# Altium schematic symbol library En.SCHLIB: 251 symbols (part 1 of 5)
Pins are listed as number, name and electrical type; pins without a type are passive.

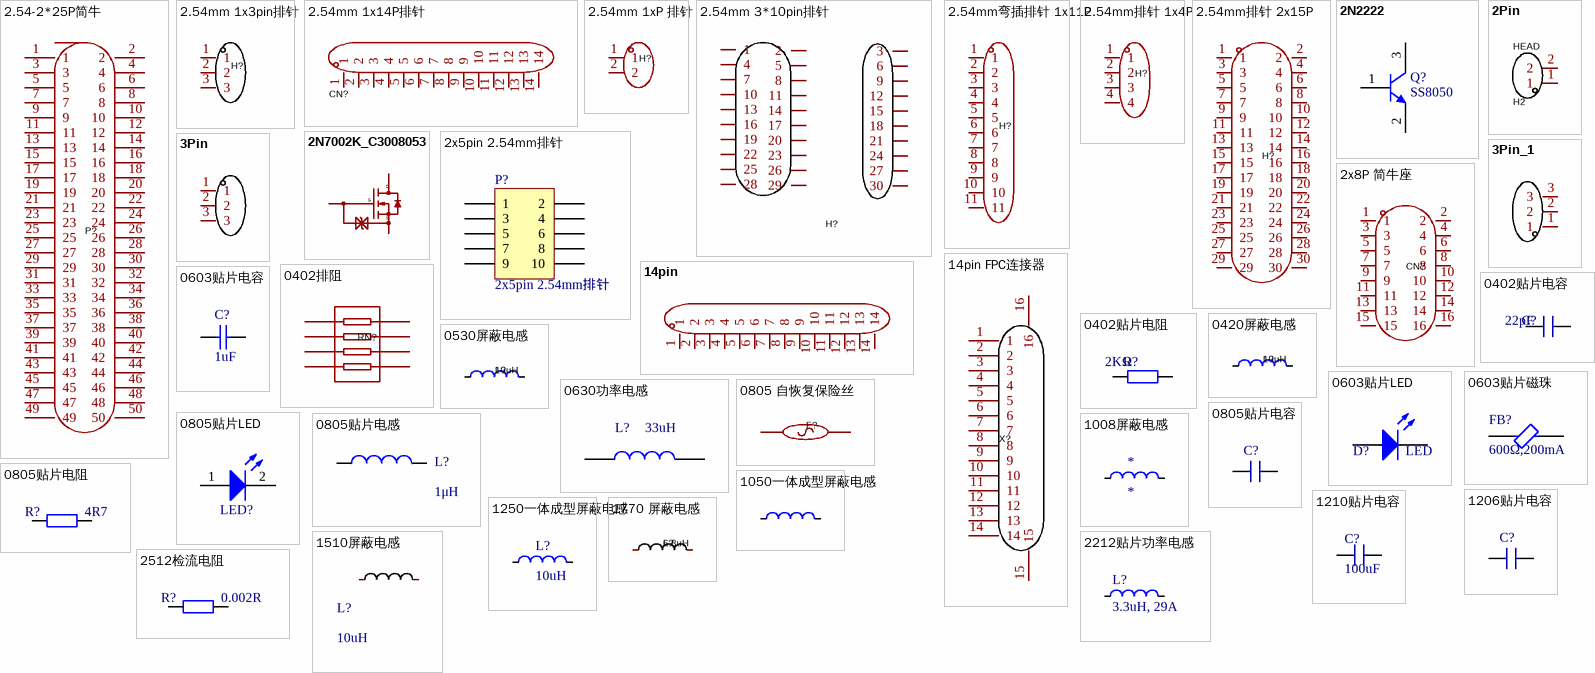
[diagram p0: symbols 2.54-2*25P简牛 to 2512检流电阻]

## 2.54-2*25P简牛
designator P?  (value not drawn)
Manufacturer: BOOMELE(博穆精密); Symbol: IDC Box2X25 2.54MM; Add into BOM: yes; Connector Type: 简牛座; Pitch: 2.54mm; Structure: 2x25P; Holder Type: 直插; Pin Number in each Row: 25; Device: 2.54-2*25P简牛; LCSC Part Name: 2.54mm 2x25P 排数:2 每排P数:25; Supplier Part: C30006; Manufacturer Part: 2.54-2*25P简牛; Supplier Footprint: 插件,P=2.54mm; JLCPCB Part Class: Extended Part; Datasheet: https://atta.szlcsc.com/upload/public/pdf/source/20151118/1457707579783.pdf; Supplier: LCSC; Convert to PCB: yes; Row Spacing: 2.54mm; Number of Rows: 2; Contact Material: -; Contact Plating: -
footprint IDC-TH_50P-P2.54_BOOMELE2X25P
pins: 1, 2, 3, 4, 5, 6, 7, 8, 9, 10, 11, 12, 13, 14, 15, 16, 17, 18, 19, 20, 21, 22, 23, 24, 25, 26, 27, 28, 29, 30, 31, 32, 33, 34, 35, 36, 37, 38, 39, 40, 41, 42, 43, 44, 45, 46, 47, 48, 49, 50

## 2.54mm 1x3pin排针
designator H?, comment PZ254V-11-03P  (value not drawn)
2.54mm 1x3pin排针; Manufacturer: XFCN(兴飞); Symbol: PZ254V-11-03P_C2937625; Add into BOM: yes; Pin Structure: 1x3P; Circluar Pins/Square Pins: 方针; Current Rating (Max): 3A; Voltage Rating (Max): 250V; Device: PZ254V-11-03P; LCSC Part Name: 间距:2.54mm 1x3P 直插 方针; Supplier Part: C2937625; Manufacturer Part: PZ254V-11-03P; Supplier Footprint: 插件,P=2.54mm; JLCPCB Part Class: Extended Part; Datasheet: https://atta.szlcsc.com/upload/public/pdf/source/20200309/C492402_8335C3D49C4E4C618838D59BB1D024C1.pdf; Supplier: LCSC; Convert to PCB: yes; Pitch: 2.54mm; Row Spacing: -; Mounting Type: 直插; Number of Rows: 单排; Number of Pins: 3P; Length of Mating Pin: 6mm; Insulation Height: 2.5mm; Length of End Connection Pin: 3mm; Operating Temperature Range: -40℃~+105℃; Color: 黑色
footprint HDR-TH_3P-P2.54-V-M
pins: 1, 2, 3

## 2.54mm 1x14P排针
designator CN?  (value not drawn)
Manufacturer: HC(虹成电子); Symbol: HC-PZ254-11.5L-1X14PZ; Add into BOM: yes; Pin Structure: 1x14P; Circluar Pins/Square Pins: 方针; Current Rating (Max): 3A; Soldering Temperature(Max): 260℃; Device: HC-PZ254-11.5L-1x14PZ; LCSC Part Name: 间距2.54mm 1x14Pin 直插 H2.5 L11.5; Supplier Part: C41375937; Manufacturer Part: HC-PZ254-11.5L-1x14PZ; Supplier Footprint: 插件,P=2.54mm; JLCPCB Part Class: Extended Part; Datasheet: https://atta.szlcsc.com/upload/public/pdf/source/20240830/63626790163DE4CBC1792CE5FB3AB1AC.pdf; Supplier: LCSC; Convert to PCB: yes; Pitch: 2.54mm; Row Spacing: -; Mounting Type: 直插; Number of Rows: 单排; Number of Pins: 14P; Length of Mating Pin: 6mm; Insulation Height: 2.5mm; Length of End Connection Pin: 3mm; Contact Material: 黄铜; Contact Plating: 金; Operating Temperature Range: -40℃~+105℃; Color: 黑色
footprint HDR-TH_14P-P2.54-V-F-1
pins: 1, 2, 3, 4, 5, 6, 7, 8, 9, 10, 11, 12, 13, 14

## 2.54mm 1xP 排针
designator H?, comment PZ254V-11-02P  (value not drawn)
Manufacturer: XFCN(兴飞); Add into BOM: yes; Pin Structure: 1x2P; Pitch: 2.54mm; Circluar Pins/Square Pins: 方针; Symbol: PZ254V-11-02P; Device: PZ254V-11-02P; LCSC Part Name: 间距:2.54mm 1x2P 直插 方针; Supplier Part: C492401; Manufacturer Part: PZ254V-11-02P; Supplier Footprint: 插件,P=2.54mm; JLCPCB Part Class: Extended Part; Datasheet: https://atta.szlcsc.com/upload/public/pdf/source/20200309/C492401_A812433581A9B211A7FFA413ADDFF0E5.pdf; Supplier: LCSC; Convert to PCB: yes; Row Spacing: -; Mounting Type: 直插; Number of Rows: 单排; Number of Pins: 2P; Current Rating (Max): -; Voltage Rating (Max): -; Length of Mating Pin: 6mm; Insulation Height: 2.5mm; Length of End Connection Pin: 3mm; Contact Material: 黄铜; Contact Plating: -; Operating Temperature Range: -40℃~+105℃; Color: 黑色
footprint HDR-TH_2P-P2.54-V-M
3D model HDR2.54-M-LI-1X2P
pins: 1, 2

## 2.54mm 3*10pin排针
designator H?  (value not drawn)
Manufacturer: Wcon(维峰电子); Symbol: 1125-1317G0S116C001; Add into BOM: yes; Pin Structure: 3x17P; Circluar Pins/Square Pins: 方针; Current Rating (Max): 3A; Device: 1125-1317G0S116C001; LCSC Part Name: 间距:2.54mm 3x17P 直插 方针; Supplier Part: C920773; Manufacturer Part: 1125-1317G0S116C001; Supplier Footprint: 插件,P=2.54mm; JLCPCB Part Class: Extended Part; Datasheet: https://atta.szlcsc.com/upload/public/pdf/source/20211207/30DA2ABB6762517FDD65C6A2AE5F4869.pdf; Supplier: LCSC; Convert to PCB: yes; Pitch: 2.54mm; Row Spacing: 2.54mm; Mounting Type: 直插; Number of Rows: 三排; Number of Pins: 51P; Voltage Rating (Max): -; Length of Mating Pin: 6.1mm; Insulation Height: 2.5mm; Length of End Connection Pin: 3mm; Operating Temperature Range: -40℃~+105℃; Color: 黑色
footprint HDR-TH_51P-P2.54-V-M-R3-C17
pins: 1, 2, 3, 4, 5, 6, 7, 8, 9, 10, 11, 12, 13, 14, 15, 16, 17, 18, 19, 20, 21, 22, 23, 24, 25, 26, 27, 28, 29, 30

## 2.54mm弯插排针 1x11P
designator H?  (value not drawn)
Manufacturer: HCTL(华灿天禄); Symbol: PZ254-1-11-W-8.5; Add into BOM: yes; Pitch: 2.54mm; Circluar Pins/Square Pins: 方针; Current Rating (Max): 3A; Soldering Temperature(Max): 260℃@10S; Device: PZ254-1-11-W-8.5; LCSC Part Name: 1x11P 间距:2.54mm 方针 弯插; Supplier Part: C2894953; Manufacturer Part: PZ254-1-11-W-8.5; Supplier Footprint: 弯插,P=2.54mm; JLCPCB Part Class: Extended Part; Datasheet: https://atta.szlcsc.com/upload/public/pdf/source/20230609/872AF364EDF8DB2CAF0930EAB94ECB6E.pdf; Supplier: LCSC; Convert to PCB: yes; Pin Structure: 1x11P; Row Spacing: -; Mounting Type: 弯插; Number of Rows: 单排; Number of Pins: 11P; Voltage Rating (Max): -; Length of Mating Pin: 6mm; Insulation Height: 2.5mm; Length of End Connection Pin: -; Contact Material: -; Operating Temperature Range: -40℃~+105℃; Color: 黑色
footprint HDR-TH_11P-P2.54-H-M-W10.4-N
pins: 1, 2, 3, 4, 5, 6, 7, 8, 9, 10, 11

## 2.54mm排针 1x4P
designator H?  (value not drawn)
Manufacturer: XFCN(兴飞); Symbol: PZ254V-11-04P_C2691448; Device: PZ254V-11-04P; Add into BOM: yes; Pitch: 2.54mm; Circluar Pins/Square Pins: 方针; Current Rating (Max): 3A; Voltage Rating (Max): 250V; LCSC Part Name: 间距:2.54mm 1x4P 直插 方针; Supplier Part: C2691448; Manufacturer Part: PZ254V-11-04P; Supplier Footprint: 插件,P=2.54mm; JLCPCB Part Class: Extended Part; Datasheet: https://atta.szlcsc.com/upload/public/pdf/source/20200309/C492403_F9F19131791D08044AD4F84F8E751A34.pdf; Supplier: LCSC; Convert to PCB: yes; Pin Structure: 1x4P; Row Spacing: -; Mounting Type: 直插; Number of Rows: 单排; Number of Pins: 4P; Length of Mating Pin: 6mm; Insulation Height: 2.5mm; Length of End Connection Pin: 3mm; Contact Material: -; Operating Temperature Range: -40℃~+105℃; Color: 黑色
footprint HDR-TH_4P-P2.54-V-M
pins: 1, 2, 3, 4

## 2.54mm排针 2x15P
designator H?, comment X6521WV-2x15H-C60D30  (value not drawn)
Manufacturer: XKB Connection(中国星坤); Symbol: X6521WV-2×15H-C30D60; Add into BOM: yes; Pin Structure: 2x15P; Pitch: 2.54mm; Circluar Pins/Square Pins: 方针; Current Rating (Max): 3A; Voltage Rating (Max): 250V; Soldering Temperature(Max): 260℃; Device: X6521WV-2x15H-C60D30; LCSC Part Name: 2x15P 间距:2.54mm 方针; Supplier Part: C725887; Manufacturer Part: X6521WV-2x15H-C60D30; Supplier Footprint: 插件,P=2.54mm; JLCPCB Part Class: Extended Part; Datasheet: https://atta.szlcsc.com/upload/public/pdf/source/20230814/F1C4971E164A170E66FC7330ABFF6881.pdf; Supplier: LCSC; Convert to PCB: yes; Row Spacing: 2.54mm; Mounting Type: -; Number of Rows: 双排; Number of Pins: 30P; Length of Mating Pin: -; Insulation Height: 2.5mm; Length of End Connection Pin: -; Contact Material: 黄铜; Contact Plating: 金; Operating Temperature Range: -40℃~+105℃; Color: 黑色
footprint HDR-TH_30P-P2.54-V-M-R2-C15-S2.54-BL
3D model HDR-TH_30P-P2.54-M-LI-2X15P
pins: 1, 2, 3, 4, 5, 6, 7, 8, 9, 10, 11, 12, 13, 14, 15, 16, 17, 18, 19, 20, 21, 22, 23, 24, 25, 26, 27, 28, 29, 30

## 2N2222
designator Q?, comment SS8050
三极管
footprint SOT-23-3_L2.9-W1.3-P1.90-LS2.4-BR
pins: 1 B, 2 E, 3 C

## 2N7002K_C3008053
designator Q?, comment 2N7002K  (value not drawn)
Manufacturer: MSKSEMI(美森科); Symbol: 2N7002K_C3008053; Add into BOM: yes; Type: 1个N沟道; Drain Source Voltage (Vdss): 60V; Continuous Drain Current (Id): 300mA; Drain Source On Resistance (RDS(on)@Vgs,Id): 2.2Ω@10V,0.3A; Power Dissipation (Pd): 350mW; Gate Threshold Voltage (Vgs(th)@Id): 1.6V@250uA; Total Gate Charge (Qg@Vgs): 5.6nC@10V; Input Capacitance (Ciss@Vds): 38pF@30V; Reverse Transfer Capacitance (Crss@Vds): 12pF@30V; Device: 2N7002K_C3008053; LCSC Part Name: N沟道,电流:0.3A,耐压:60V; Supplier Part: C3008053; Manufacturer Part: 2N7002K; Supplier Footprint: SOT-23; JLCPCB Part Class: Extended Part; Datasheet: https://atta.szlcsc.com/upload/public/pdf/source/20231010/5AB8D059FA255FE9F5E2F13E941A7E6F.pdf; Supplier: LCSC; Convert to PCB: yes; Operating Temperature: -50℃~+150℃
footprint SOT-23-3_L2.9-W1.3-P1.90-LS2.4-BR
3D model SOT-23-3_L2.9-W1.3-P1.90-LS2.4
pins: 1 G, 2 S, 3 D

## 2Pin
designator H2, comment HEAD
2.54mm; Manufacturer: XFCN(兴飞); Name: PZ254V-11-02P; Add into BOM: yes; Pin Structure: 1x2P; Circluar Pins/Square Pins: 方针; Symbol: PZ254V-11-02P; Device: PZ254V-11-02P; LCSC Part Name: 间距:2.54mm 1x2P 直插 方针; Supplier Part: C492401; Manufacturer Part: PZ254V-11-02P; Supplier Footprint: 插件,P=2.54mm; JLCPCB Part Class: Extended Part; Datasheet: https://atta.szlcsc.com/upload/public/pdf/source/20200309/C492401_A812433581A9B211A7FFA413ADDFF0E5.pdf; Supplier: LCSC; Convert to PCB: yes; Pitch: 2.54mm; Row Spacing: -; Mounting Type: 直插; Number of Rows: 单排; Number of Pins: 2P; Current Rating (Max): -; Voltage Rating (Max): -; Length of Mating Pin: 6mm; Insulation Height: 2.5mm; Length of End Connection Pin: 3mm; Contact Material: 黄铜; Contact Plating: -; Operating Temperature Range: -40℃~+105℃; Color: 黑色
footprint HDR-TH_2P-P2.54-V-M
3D model HDR2.54-M-LI-1X2P
pins: 1, 2

## 2x5pin 2.54mm排针
designator P?
LatestRevisionDate: 17-Jul-2002; LatestRevisionNote: Re-released for DXP Platform.; Publisher: Altium Limited
footprint HDR2.54-LI-2x5P (双排排针，5x2脚)
signal-integrity model Connector
pins: 1, 2, 3, 4, 5, 6, 7, 8, 9, 10

## 2x8P 简牛座
designator CN?, comment DC3-2.54-16PAS  (value not drawn)
Manufacturer: ZHOURI(洲日); Add into BOM: yes; Connector Type: 简牛座; Pitch: 2.54mm; Structure: 2x8P; Current Rating (Max): 1.5A; Holder Type: 直插; Pin Number in each Row: 8; Symbol: DC3-2.54-16PAS; Device: DC3-2.54-16PAS; LCSC Part Name: 2.54mm 2x8P 排数:2 每排P数:8; Supplier Part: C2977594; Manufacturer Part: DC3-2.54-16PAS; Supplier Footprint: 插件,P=2.54mm; JLCPCB Part Class: Extended Part; Datasheet: https://atta.szlcsc.com/upload/public/pdf/source/20220328/DDB0DC2D3C0009F4DD774BD49E0C4E07.pdf; Supplier: LCSC; Convert to PCB: yes; Voltage Rating (Max): -; Row Spacing: 2.54mm; Number of Rows: 2; Operating Temperature Range: -40℃~+105℃
footprint IDC-TH_16P-P2.54_C3406
pins: 1, 2, 3, 4, 5, 6, 7, 8, 9, 10, 11, 12, 13, 14, 15, 16

## 3Pin
designator U?, comment ZX-XH2.54-3PZZ  (value not drawn)
XH2.54 3Pin 接口; Manufacturer: Megastar(兆星); Add into BOM: yes; Pins Structure: 1x3P; Pitch: 2.54mm; Reference Series: XH; Number of PINs Per Row: 3; Current Rating (Max): 3A; Symbol: ZX-XH2.54-3PZZ; Device: ZX-XH2.54-3PZZ; Supplier: LCSC; Supplier Part: C7429633; Manufacturer Part: ZX-XH2.54-3PZZ; JLCPCB Part Class: Extended Part; LCSC Part Name: ZX-XH2.54-3PZZ; Supplier Footprint: 插件,P=2.54mm; Datasheet: https://atta.szlcsc.com/upload/public/pdf/source/20230619/AE17037A2CFDBE8D9CBA775D61AD0A84.pdf; Convert to PCB: yes; Mounting Style: 直插; Number of Pins: 3P; Number of Rows: 1; Row Spacing: -; Contact Material: 黄铜; Contact Plating: 锡; Operating Temperature Range: -25℃~+85℃
footprint CONN-TH_3P-P2.54_2501S-3P
pins: 1, 2, 3

## 3Pin_1
designator U5, comment ZX-XH2.54-3PZZ  (value not drawn)
2.54mm; Manufacturer: Megastar(兆星); Add into BOM: yes; Pins Structure: 1x3P; Reference Series: XH; Number of PINs Per Row: 3; Current Rating (Max): 3A; Symbol: ZX-XH2.54-3PZZ; Device: ZX-XH2.54-3PZZ; Supplier: LCSC; Supplier Part: C7429633; Manufacturer Part: ZX-XH2.54-3PZZ; JLCPCB Part Class: Extended Part; LCSC Part Name: ZX-XH2.54-3PZZ; Supplier Footprint: 插件,P=2.54mm; Datasheet: https://atta.szlcsc.com/upload/public/pdf/source/20230619/AE17037A2CFDBE8D9CBA775D61AD0A84.pdf; Convert to PCB: yes; Pitch: 2.54mm; Mounting Style: 直插; Number of Pins: 3P; Number of Rows: 1; Row Spacing: -; Contact Material: 黄铜; Contact Plating: 锡; Operating Temperature Range: -25℃~+85℃
footprint HDR1X3 (Connector; Header; 3 Position)
pins: 1, 2, 3

## 14pin
designator UP1, comment HC-PZ254-11.5L-1x14PZ  (value not drawn)
Manufacturer: HC(虹成电子); Add into BOM: yes; Pin Structure: 1x14P; Pitch: 2.54mm; Circluar Pins/Square Pins: 方针; Current Rating (Max): 3A; Soldering Temperature(Max): 260℃; Symbol: HC-PZ254-11.5L-1X14PZ; Device: HC-PZ254-11.5L-1x14PZ; LCSC Part Name: 间距2.54mm 1x14Pin 直插 H2.5 L11.5; Supplier Part: C41375937; Manufacturer Part: HC-PZ254-11.5L-1x14PZ; Supplier Footprint: 插件,P=2.54mm; JLCPCB Part Class: Extended Part; Datasheet: https://atta.szlcsc.com/upload/public/pdf/source/20240830/63626790163DE4CBC1792CE5FB3AB1AC.pdf; Supplier: LCSC; Convert to PCB: yes; Row Spacing: -; Mounting Type: 直插; Number of Rows: 单排; Number of Pins: 14P; Length of Mating Pin: 6mm; Insulation Height: 2.5mm; Length of End Connection Pin: 3mm; Contact Material: 黄铜; Contact Plating: 金; Operating Temperature Range: -40℃~+105℃; Color: 黑色
footprint HDR-TH_14P-P2.54-V-M
pins: 1, 2, 3, 4, 5, 6, 7, 8, 9, 10, 11, 12, 13, 14

## 14pin FPC连接器
designator X?  (value not drawn)
Manufacturer: JS(钜硕电子); Symbol: AFC01-S14FCA-00; Add into BOM: yes; Locking Feature: 翻盖式; Number of Contacts: 14P; Pitch: 0.5mm; FFC, FCB Thickness: 0.3mm; Device: AFC01-S14FCA-00; Supplier: LCSC; Supplier Part: C262663; Manufacturer Part: AFC01-S14FCA-00; JLCPCB Part Class: Extended Part; LCSC Part Name: 间距:0.5mm P数:14P 翻盖式 下接; Supplier Footprint: SMD,P=0.5mm,卧贴; Datasheet: https://atta.szlcsc.com/upload/public/pdf/source/20190816/C413942_2A72D1AC756EAE17EEDF756A339D4500.pdf; Convert to PCB: yes; Contact Type: 下接; Mounting Type: 卧贴; Height Above Board: 2mm; Operating Temperature Range: -
footprint FPC-SMD_AFC01-S14FCA-00
pins: 1, 2, 3, 4, 5, 6, 7, 8, 9, 10, 11, 12, 13, 14, 15, 16

## 0402排阻
designator RN?  (value not drawn)
Manufacturer: UNI-ROYAL(厚声); Symbol: 4D02WGJ0103TCE; Add into BOM: yes; Number of Resistors: 4; Value: 10kΩ; Tolerance: ±5%; Power(Watts): 62.5mW; Temperature Coefficient: ±200ppm/℃; Device: 4D02WGJ0103TCE; LCSC Part Name: 10kΩ ±5%; Supplier Part: C25725; Manufacturer Part: 4D02WGJ0103TCE; Supplier Footprint: 0402x4; JLCPCB Part Class: Extended Part; Datasheet: https://atta.szlcsc.com/upload/public/pdf/source/20191224/C474318_2527498AE30E813171187CCD28401A71.pdf; Supplier: LCSC; Convert to PCB: yes; Number of Pins: 8
footprint RES-ARRAY-SMD_0402-8P-L2.0-W1.0-BL
pins: 1, 2, 3, 4, 5, 6, 7, 8

## 0402贴片电容
designator C?, comment 22pF
贴片电容0402
footprint c0402
pins: 1, 2

## 0402贴片电阻
designator R?, comment 2KΩ
0402贴片电阻; W: *
footprint R0402 (1/16W)
pins: 1, 2

## 0420屏蔽电感
designator L?, comment 10uH
一体成型屏蔽电感，0420封装; Manufacturer: XR(祥如); Symbol: XR0530-100M; Add into BOM: yes; Tolerance: ±20%; Rated Current: 3.2A; Saturation Current (Isat): 3.5A; DC Resistance (DCR): 125mΩ; Type: 一体成型电感; Device: XR0530-100M; LCSC Part Name: 10uH ±20% 3.5A; Supplier Part: C5307602; Manufacturer Part: XR0530-100M; Supplier Footprint: SMD,0530; JLCPCB Part Class: Extended Part; Datasheet: https://atta.szlcsc.com/upload/public/pdf/source/20240328/42FE63A3232C4AF7EB8F1CDEDD5FC69F.pdf; Supplier: LCSC; Convert to PCB: yes; Value: 10uH
footprint IND-SMD_L4.1-W4.1
pins: 1, 2

## 0530屏蔽电感
designator L?, comment 10uH
一体成型屏蔽电感，0530封装，额定电流3A; Manufacturer: XR(祥如); Symbol: XR0530-100M; Add into BOM: yes; Tolerance: ±20%; Rated Current: 3.2A; Saturation Current (Isat): 3.5A; DC Resistance (DCR): 125mΩ; Type: 一体成型电感; Device: XR0530-100M; LCSC Part Name: 10uH ±20% 3.5A; Supplier Part: C5307602; Manufacturer Part: XR0530-100M; Supplier Footprint: SMD,0530; JLCPCB Part Class: Extended Part; Datasheet: https://atta.szlcsc.com/upload/public/pdf/source/20240328/42FE63A3232C4AF7EB8F1CDEDD5FC69F.pdf; Supplier: LCSC; Convert to PCB: yes; Value: 10uH
footprint IND-SMD_L5.4-W5.2
3D model IND-SMD_L5.4-W5.2-H3.0
pins: 1, 2

## 0603贴片LED
designator D?, comment LED
0603LED
footprint LED 0603R (红色0603LED)
pins: 1 A, 2 K

## 0603贴片电容
designator C?, comment 1uF
0603贴片电容
simulation model CAP (Capacitor)
signal-integrity model Cap
footprint C 0603_M (无极性贴片电容)
pins: 1, 2

## 0603贴片磁珠
designator FB?, comment 600Ω,200mA
0603贴片磁珠
footprint FB0603_M (0603贴片磁珠)
pins: 1, 2

## 0630功率电感
designator L?, comment 33uH
一体成型屏蔽电感
simulation model INDUCTOR (Inductor)
signal-integrity model Inductor Iron
footprint L-SMD-0630 (一体化成型电感)
pins: 1, 2

## 0805 自恢复保险丝
designator F?, comment BSMD0805-010-33V  (value not drawn)
Manufacturer: BHFUSE(佰宏); Add into BOM: yes; Operating Voltage (Max): 33V; Current Rating (Max): 40A; Hold Current: 100mA; Trip Current: 300mA; Power Dissipation: 500mW; Resistance - Initial (Ri) (Min): 750mΩ; Resistance - Post Trip (R1) (Max): 6Ω; Maximum Time to Trip: 1.5s; Symbol: BSMD0805-010-33V; Device: BSMD0805-010-33V; LCSC Part Name: 0805 0.1A 33V 国产高电压; Supplier Part: C883101; Manufacturer Part: BSMD0805-010-33V; Supplier Footprint: 0805; JLCPCB Part Class: Extended Part; Datasheet: https://atta.szlcsc.com/upload/public/pdf/source/20230512/7A46D6CD923C15CBB98FD769C08EDD80.pdf; Supplier: LCSC; Convert to PCB: yes; Operating Temperature: -40℃~+85℃
footprint F0805
3D model F0805_L2.1-W1.4-H0.8
pins: 1, 2

## 0805贴片LED
designator LED?, comment LED  (value not drawn)
0805贴片LED
footprint led0805 (1/8W)
pins: 1 A, 2 K

## 0805贴片电容
designator C?, comment 100nF  (value not drawn)
0805贴片电容
footprint C0805
pins: 1, 2

## 0805贴片电感
designator L?, comment 1μH
0805贴片电感
footprint L0805
pins: 1, 2

## 0805贴片电阻
designator R?, comment 4R7
0805贴片电阻
simulation model RESISTOR (Resistor)
signal-integrity model Res
footprint R 0805_M (1/8W贴片电阻)
pins: 1, 2

## 1008屏蔽电感
designator *
footprint IND-SMD_L2.5-W2.0
pins: 1, 2

## 1050一体成型屏蔽电感
designator L?, comment 10uH  (value not drawn)
1050一体成型屏蔽电感; Manufacturer: DMBJ(振宝佳); Symbol: CXP1050-4R7M-AG(4.7UH); Add into BOM: yes; Value: 4.7uH; Tolerance: ±20%; Rated Current: 9.5A; Saturation Current (Isat): 15A; DC Resistance (DCR): 15mΩ; Type: 一体成型电感; Device: CXP1050-4R7M-AG(4.7uh); LCSC Part Name: 4.7uH ±20% 15A; Supplier Part: C7461389; Manufacturer Part: CXP1050-4R7M-AG(4.7uh); Supplier Footprint: 1050; JLCPCB Part Class: Extended Part; Datasheet: https://atta.szlcsc.com/upload/public/pdf/source/20230706/7F3A5B39C5AD80A91C9FA782B54A296B.pdf; Supplier: LCSC; Convert to PCB: yes
footprint IND-SMD_L11.0-W10.2
pins: 1, 2

## 1206贴片电容
designator C?, comment 100nF  (value not drawn)
1206贴片电容
footprint 1206
pins: 1, 2

## 1210贴片电容
designator C?, comment 100uF
1210贴片电容
footprint 1210
pins: 1, 2

## 1250一体成型屏蔽电感
designator L?, comment 10uH
1250一体成型屏蔽电感
footprint IND-SMD_L13.5-W12.8
pins: 1, 2

## 1510屏蔽电感
designator L?, comment 10uH
footprint 1510Inductor
pins: 1, 2

## 1770 屏蔽电感
designator L?, comment 6.8uH
Manufacturer: SXN(顺翔诺); Symbol: SMMS1770-3R3M; Add into BOM: yes; Value: 3.3uH; Tolerance: ±20%; Rated Current: 28A; Saturation Current (Isat): 54A; DC Resistance (DCR): 4.2mΩ; Type: 一体成型电感; Device: SMMS1770-3R3M; LCSC Part Name: 3.3uH ±20% 54A; Supplier Part: C2976964; Manufacturer Part: SMMS1770-3R3M; Supplier Footprint: SMD,17.5x17.15x7mm; JLCPCB Part Class: Extended Part; Datasheet: https://atta.szlcsc.com/upload/public/pdf/source/20220224/D8C8E12B51A4AD75CA32F676574334C0.pdf; Supplier: LCSC; Convert to PCB: yes; Ratings: -
footprint IND-SMD_L17.5-W17.2
3D model IND-SMD_L17.5-W17.2-H7.0
pins: 1, 2

## 2212贴片功率电感
designator L?, comment 3.3uH, 29A
2212贴片功率电感; Manufacturer Part Number: 74435580330; Manufacturer: Wurth Elektronik; DC Resistance: 1.7mOhm; Material: MnZn; Self Resonant Frequency: 26.5MHz; Saturation Current: 45A; Rated Inductance: 2.85uH; ComponentLink1Description: Manufacturer; ComponentLink1URL: http://www.we-online.de; ComponentLink2Description: Datasheet; ComponentLink2URL: https://www.we-online.com/catalog/datasheet/74435580330.pdf; Operating Temperature: -40 to +125degC; Packaging: Tape and Reel; Published Date: April 2020; Rated Current: 29A; Size: 2212; Inductance: 3.3uH; Mounting Technology: SMT
footprint WE-HCI_2212
pins: 1, 2

## 2512检流电阻
designator R?, comment 0.002R
2512检流电阻
footprint R 2512_M (1W贴片电阻)
pins: 1, 2

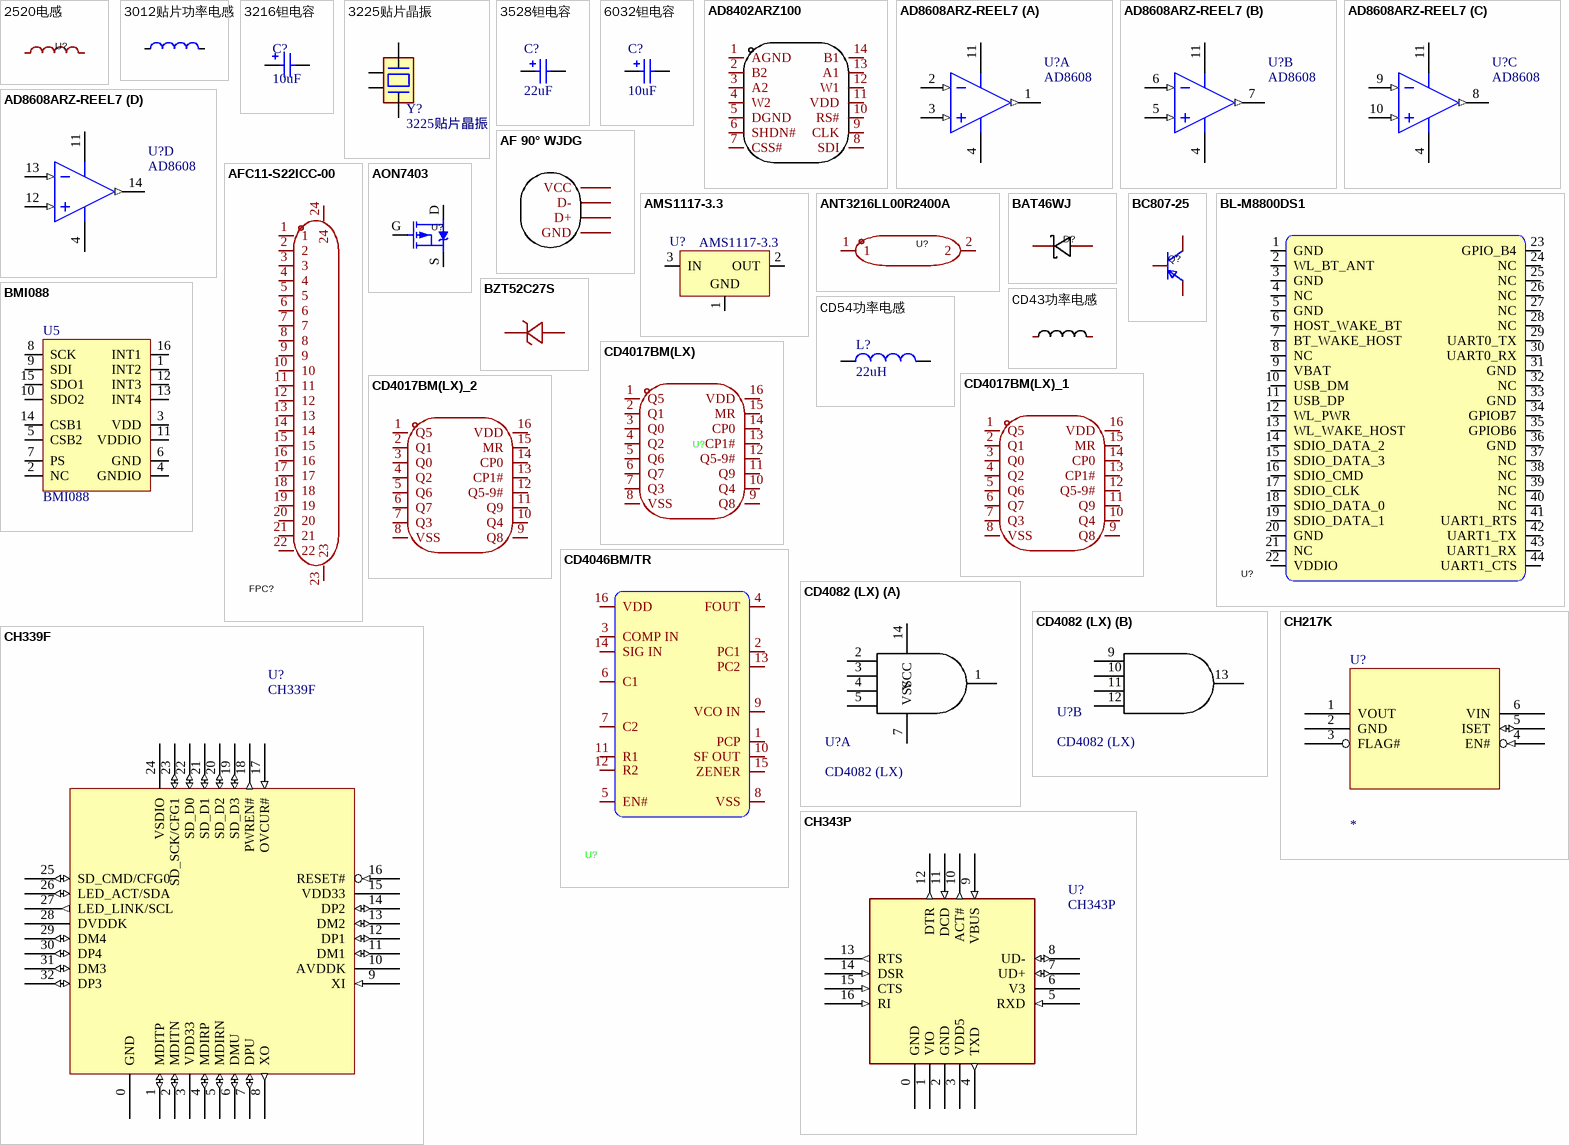
[diagram p1: symbols 2520电感 to CH343P]

## 2520电感
designator U?, comment 2.2uH  (value not drawn)
2.5x2.0mm,2.2uH,2.4A; Manufacturer: cjiang(长江微电); Symbol: FTC252010S4R7MBCA; Add into BOM: yes; Value: 4.7uH; Tolerance: ±20%; Rated Current: 2A; Saturation Current (Isat): 2.6A; DC Resistance (DCR): 160mΩ; Device: FTC252010S4R7MBCA; LCSC Part Name: 4.7uH ±20% 2.6A; Supplier Part: C5832360; Manufacturer Part: FTC252010S4R7MBCA; Supplier Footprint: SMD,2x2.5mm; JLCPCB Part Class: Extended Part; Datasheet: https://atta.szlcsc.com/upload/public/pdf/source/20230602/8FFEDA9C0247A92A0D4B67554BFE4091.pdf; Supplier: LCSC; Convert to PCB: yes; Type: 一体成型电感
footprint IND-SMD_L2.5-W2.0-VLS252012CX-150M
3D model IND-SMD_L2.5-W2.0-VLS252012CX-150M
pins: 1, 2

## 3012贴片功率电感
designator L?, comment FNR3012S100MT  (value not drawn)
3012贴片功率电感; Manufacturer: cjiang(长江微电); Value: 10uH; Add into BOM: yes; Tolerance: ±20%; Rated Current: 900mA; Saturation Current (Isat): 880mA; DC Resistance (DCR): 345mΩ; Symbol: FNR3012S100MT; Device: FNR3012S100MT; Supplier: LCSC; Supplier Part: C528017; Manufacturer Part: FNR3012S100MT; JLCPCB Part Class: Extended Part; LCSC Part Name: 10uH ±20% 880mA; Supplier Footprint: SMD,3x3mm; Datasheet: https://atta.szlcsc.com/upload/public/pdf/source/20190327/C167925_9EFF0AABC4CA629C2CC95961DBF7D39D.pdf; Convert to PCB: yes; Type: -; Ratings: -
footprint IND-SMD_L3.0-W3.0
pins: 1, 2

## 3216钽电容
designator C?, comment 10uF
3216钽电容
footprint 3216
pins: 1, 2

## 3225贴片晶振
designator Y?
Value: 16M
footprint OSC-3225-4P (3.2*2.5*0.7mm(长宽高)                             淘宝ID:黄晶宝石)
pins: 1, 2, 3, 4

## 3528钽电容
designator C?, comment 22uF
3528钽电容
simulation model CAP (Capacitor)
signal-integrity model Cap Pol
footprint CD B(3528) (长3.5mm，宽2.8mm，厚1.9mm)
pins: 1, 2
1 alternate drawing of the same symbol

## 6032钽电容
designator C?, comment 10uF
6032钽电容
simulation model CAP (Capacitor)
signal-integrity model Cap Pol
footprint CD C(6032) (长6.0mm，宽3.2mm，厚2.5mm)
pins: 1, 2
1 alternate drawing of the same symbol

## AD8402ARZ100
designator U?  (value not drawn)
数字电位器; Manufacturer: ADI(亚德诺)/LINEAR; Add into BOM: yes; Symbol: AD8402ARZ100; Device: AD8402ARZ100; LCSC Part Name: AD8402ARZ100; Supplier Part: C652776; Manufacturer Part: AD8402ARZ100; Supplier Footprint: SOIC-14; JLCPCB Part Class: Extended Part; Datasheet: https://atta.szlcsc.com/upload/public/pdf/source/20200109/C467169_22C6BB18B1DB76A0432D458D3EFFE4D7.pdf; Supplier: LCSC; Convert to PCB: yes; Taper: -; Configuration: -; Number of Circuits: -; Number of Taps: -; Resistance (Ohms): -; Interface: -; Memory Type: -; Supply Voltage: -; Tolerance: -; Temperature Coefficient (Typ): -; Resistance - Wiper (Ohms) (Typ): -; Operating Temperature: -
footprint SOIC-14_L8.7-W3.9-P1.27-LS6.0-BL
pins: 1 AGND, 2 B2, 3 A2, 4 W2, 5 DGND, 6 SHDN#, 7 CSS#, 8 SDI, 9 CLK, 10 RS#, 11 VDD, 12 W1, 13 A1, 14 B1

## AD8608ARZ-REEL7
designator U?, comment AD8608
四通道运放; Manufacturer: Analog Devices; PartNumber: AD8608ARZ-REEL7; Amplifiers Per Package: 4; Input Bias Current: 200fA; Input Offset Voltage: 20uV; Iq/Amp: 1.2mA; Slew Rate: 5V/us; Small Signal Bandwidth: 10MHz; V Span Max: 6V; V Span Min: 2.7V; DatasheetVersion: Rev. L; PackageVersion: 060606-A; PackageReference: R-14; PackageDescription: 14-Pin Standard Small Outline Package, Body 8.65 x 3.9 mm, Pitch 1.27 mm; Supplier 1: Digi-Key; Supplier Part Number 1: AD8608ARZ-REEL7-ND; Supplier 2: Newark; Supplier Part Number 2: 59K6933; Generic Part Number: AD8608; Mounting Technology: Surface Mount; Code_JEDEC: MS-012-AB; ComponentLink1Description: Manufacturer URL; ComponentLink1URL: http://www.analog.com/en/index.html; ComponentLink2Description: Datasheet; ComponentLink2URL: http://www.analog.com/static/imported-files/data_sheets/AD8605_8606_8608.pdf; ComponentLink3Description: Package Specification; ComponentLink3URL: http://www.analog.com/static/imported-files/packages/PKG_PDF/SOIC_Narrow%20(R)/R_14.pdf; ComponentLink4Description: Reference Circuit; ComponentLink4URL: http://www.analog.com/en/all-operational-amplifiers-op-amps/operational-amplifiers-op-amps/ad8608/products/product.html#product-recommendations
footprint SOP14_N (8.7*6.2*1.8mm（长宽高）)
pins on every part: 4 +V (power), 11 -V (power)
part A pins: 1 OUT A (out), 2 -IN A (in), 3 +IN A (in)
part B pins: 5 +IN B (in), 6 -IN B (in), 7 OUT B (out)
part C pins: 8 OUT C (out), 9 -IN C (in), 10 +IN C (in)
part D pins: 12 +IN D (in), 13 -IN D (in), 14 OUT D (out)

## AF 90° WJDG
designator USB?  (value not drawn)
Manufacturer: SHOU HAN(首韩); Add into BOM: yes; Connector Type: Type-A; Gender: 母; Number of Ports: 1; Number of Contacts: 4P; Current Rating - Power (Max): 1.5A; Symbol: AF 90° WJDG; Device: AF 90° WJDG; LCSC Part Name: Type-A 母 弯插; Supplier Part: C456018; Manufacturer Part: AF 90° WJDG; Supplier Footprint: 插件; JLCPCB Part Class: Extended Part; Datasheet: https://atta.szlcsc.com/upload/public/pdf/source/20191113/C456018_B104E062BEB8E11E57E63560E04EE13A.pdf; Supplier: LCSC; Convert to PCB: yes; Standard: USB 2.0; Mounting Style: 弯插; Operating Temperature Range: -25℃~+85℃
footprint USB-A-TH_AF-WJDG
pins: 1 VCC, 2 D-, 3 D+, 4 GND

## AFC11-S22ICC-00
designator FPC?  (value not drawn)
22P FPC连接器; Manufacturer: JS(钜硕电子); Symbol: AFC11-S22ICC-00_C11074; Add into BOM: yes; Locking Feature: 抽屉式; Pitch: 0.5mm; FFC, FCB Thickness: 0.3mm; Device: AFC11-S22ICC-00; LCSC Part Name: 间距:0.5mm P数:22P 抽屉式 单侧触点/垂直; Supplier Part: C11074; Manufacturer Part: AFC11-S22ICC-00; Supplier Footprint: SMD,P=0.5mm; JLCPCB Part Class: Extended Part; Datasheet: https://atta.szlcsc.com/upload/public/pdf/source/20191211/C466537_F6F2472ADACFFA77E875AFE9DAB8E0AD.pdf; Supplier: LCSC; Convert to PCB: yes; Contact Type: 单侧触点/垂直; Number of Contacts: 22P; Mounting Type: 立贴; Height Above Board: 4.4mm
footprint FPC-SMD_22P-P1.00_AFC11-S22ICC-00
3D model FPC-SMD_22P-P1.00_AFC11-S22ICC-00
pins: 1, 2, 3, 4, 5, 6, 7, 8, 9, 10, 11, 12, 13, 14, 15, 16, 17, 18, 19, 20, 21, 22, 23, 24

## AMS1117-3.3
designator U?
线性稳压芯片; PartNumber: LM1117IDT-3.3; Manufacturer: National Semiconductor; PackageTopMarking: NSUZXYTT*LM1117*IDT-3.3; PowerWise: N; CompType: LDO IC; High-Reliability: Y; DatasheetVersion: Apr-2006; PackageVersion: revD, Feb-2009; PackageReference: TD03B; PackageDescription: TO252, Molded, Jedec, 6.8 x 6.10 x 2.30mm Body, 3 Lead, 2.28mm Pitch, Surface Mount; RoHS: N; PinCount: 3; Code_JEDEC: TO-252-AA; ComponentLink1Description: Manufacturer URL; ComponentLink1URL: http://www.national.com/; ComponentLink2Description: LM1117 Datasheet; ComponentLink2URL: http://www.national.com/ds/LM/LM1117.pdf; ComponentLink3Description: LM1117 Web Page; ComponentLink3URL: http://www.national.com/pf/LM/LM1117.html; ComponentLink4Description: TD03B Package Page; ComponentLink4URL: http://www.national.com/packaging/folders/td03b.html
footprint sot-223
pins: 1 GND (power), 2 OUT (power), 3 IN (power)

## ANT3216LL00R2400A
designator U?  (value not drawn)
2.4GHz天线; Manufacturer: YAGEO(国巨); Add into BOM: yes; Antenna Type: 芯片天线; Central Frequency: 2.45GHz; Bandwidth: 160MHz; Peak Gain: 5.05dBi; Polarization Type: 线性; Impedance: 50Ω; Power capacity: 1W; Symbol: ANT3216LL00R2400A; Device: ANT3216LL00R2400A; LCSC Part Name: 无线组件陶瓷芯片天线; Supplier Part: C293767; Manufacturer Part: ANT3216LL00R2400A; Supplier Footprint: 1206; JLCPCB Part Class: Extended Part; Datasheet: https://atta.szlcsc.com/upload/public/pdf/source/20181012/C293767_CDE82A2F74DC82A94DB708CB53B68F23.pdf; Supplier: LCSC; Convert to PCB: yes; VSWR: -; Operating Temperature: -40℃~+105℃
footprint ANT-SMD_L3.2-W1.6
3D model ANT-SMD_L3.2-W1.6-H1.3
pins: 1, 2

## AON7403
designator U?  (value not drawn)
Manufacturer: TECH PUBLIC(台舟); Symbol: AON7403_C5310961; Add into BOM: yes; Device: AON7403_C5310961; LCSC Part Name: AON7403; Supplier Part: C5310961; Manufacturer Part: AON7403; Supplier Footprint: PDFN-8; JLCPCB Part Class: Extended Part; Datasheet: https://atta.szlcsc.com/upload/public/pdf/source/20221212/36DA98EDFE73327CB4574501A775E746.pdf; Supplier: LCSC; Convert to PCB: yes
footprint DFN-8_L3.0-W3.0-P0.65-BL
pins: D, G, S

## BAT46WJ
designator D?, comment BAT46WJ,115  (value not drawn)
小信号肖特基二极管; Manufacturer: Nexperia(安世); Add into BOM: yes; Forward Voltage (Vf@If): 850mV@250mA; Reverse Voltage (Vr): 100V; Average Rectified Current (Io): 250mA; Reverse Leakage Current (Ir): 9uA@100V; Symbol: BAT46WJ,115; Device: BAT46WJ,115; LCSC Part Name: 电压:100V 电流:250mA; Supplier Part: C114696; Manufacturer Part: BAT46WJ,115; Supplier Footprint: SOD-323F; JLCPCB Part Class: Extended Part; Datasheet: https://atta.szlcsc.com/upload/public/pdf/source/20170620/1497944776306.pdf; Supplier: LCSC; Convert to PCB: yes
footprint SOD-323F_L2.0-W1.6-LS2.5-RD
3D model SOD-323F_L1.6-W1.3-H1.1-LS2.7
pins: 1 K, 2 A

## BC807-25
designator Q?  (value not drawn)
PNP三极管 45V; Manufacturer: Slkor(萨科微); Symbol: BC807-25_C556162; Add into BOM: yes; Transistor Type: PNP; Collector Current (Ic): 500mA; Power Dissipation (Pd): 300mW; DC Current Gain (hFE@Ic,Vce): 160@100mA,1V; Transition Frequency (fT): 100MHz; Collector Cut-Off Current (Icbo): 100nA; Collector-Emitter Saturation Voltage (VCE(sat)@Ic,Ib): 700mV@500mA,50mA; Device: BC807-25_C556162; LCSC Part Name: PNP 电流:500mA 耐压:45V; Supplier Part: C556162; Manufacturer Part: BC807-25; Supplier Footprint: SOT-23; JLCPCB Part Class: Extended Part; Datasheet: https://atta.szlcsc.com/upload/public/pdf/source/20200521/C556162_BDCBBA5B0FE68DCC5A46121101641694.pdf; Supplier: LCSC; Convert to PCB: yes; Collector-Emitter Breakdown Voltage (Vceo): 45V; Operating Temperature: -
footprint SOT-23-3_L2.9-W1.3-P1.90-LS2.4-BR
pins: 1 B, 2 E, 3 C

## BL-M8800DS1
designator U?  (value not drawn)
WIFI6 2.4GHz/5GHz模块; Manufacturer: Ai-Thinker(安信可); Symbol: AI-M62-CBS(BLIFN4); Add into BOM: yes; Device: Ai-M62-CBS(BLIFN4); LCSC Part Name: Ai-M62-CBS(BLIFN4); Supplier Part: C41368035; Manufacturer Part: Ai-M62-CBS(BLIFN4); Supplier Footprint: SMD,12x12mm; JLCPCB Part Class: Extended Part; Datasheet: https://atta.szlcsc.com/upload/public/pdf/source/20240321/D62C7EC8BED5F5764FD8187C205F7E1C.pdf; Supplier: LCSC; Convert to PCB: yes
footprint WIRELM-SMD_AI-M62-CBS
3D model WIRELM-SMD_AI-M62-CBS
pins: 1 GND, 2 WL_BT_ANT, 3 GND, 4 NC, 5 GND, 6 HOST_WAKE_BT, 7 BT_WAKE_HOST, 8 NC, 9 VBAT, 10 USB_DM, 11 USB_DP, 12 WL_PWR, 13 WL_WAKE_HOST, 14 SDIO_DATA_2, 15 SDIO_DATA_3, 16 SDIO_CMD, 17 SDIO_CLK, 18 SDIO_DATA_0, 19 SDIO_DATA_1, 20 GND, 21 NC, 22 VDDIO, 23 GPIO_B4, 24 NC, 25 NC, 26 NC, 27 NC, 28 NC, 29 UART0_TX, 30 UART0_RX, 31 GND, 32 NC, 33 GND, 34 GPIOB7, 35 GPIOB6, 36 GND, 37 NC, 38 NC, 39 NC, 40 NC, 41 UART1_RTS, 42 UART1_TX, 43 UART1_RX, 44 UART1_CTS

## BMI088
designator U5
BMI088 陀螺仪
footprint LGA-16_L4.5-W3.0-P0.50-BL
pins: 1 INT2, 2 NC, 3 VDD, 4 GNDIO, 5 CSB2, 6 GND, 7 PS, 8 SCK, 9 SDI, 10 SDO2, 11 VDDIO, 12 INT3, 13 INT4, 14 CSB1, 15 SDO1, 16 INT1

## BZT52C27S
designator D?  (value not drawn)
Manufacturer: YFW(佑风微); Symbol: BZT52C27S_C5270783; Add into BOM: yes; Diode Configuration: 独立式; Zener Voltage (Nom): 25.1V; Reverse Leakage Current (Ir): 100nA@18.9V; Zener Voltage (Range): 27V~28.9V; Power Dissipation: 200mW; Zener Impedance (Zzt): 80Ω; Device: BZT52C27S_C5270783; LCSC Part Name: BZT52C27S; Supplier Part: C5270783; Manufacturer Part: BZT52C27S; Supplier Footprint: SOD-323; JLCPCB Part Class: Extended Part; Datasheet: https://atta.szlcsc.com/upload/public/pdf/source/20221116/07630275E16F5BD1867C326257346985.pdf; Supplier: LCSC; Convert to PCB: yes
footprint SOD-323_L1.6-W1.3-LS2.7-RD
3D model SOD-323_L1.6-W1.3-LS2.7-RD
pins: 1 C, 2 A

## CD43功率电感
designator L?, comment 10uH  (value not drawn)
功率电感; Manufacturer: MINGSTAR(登壹); Name: 22uH; Symbol: CD43N-220M; Add into BOM: yes; Value: 22uH; Tolerance: ±20%; Rated Current: 930mA; DC Resistance (DCR): 230mΩ; Device: CD43N-220M; LCSC Part Name: 22uH ±20%; Supplier Part: C2832086; Manufacturer Part: CD43N-220M; Supplier Footprint: SMD,4.5x4mm; JLCPCB Part Class: Extended Part; Datasheet: https://atta.szlcsc.com/upload/public/pdf/source/20210524/C2832086_3DE1D5B4C4DE81ED72BC30D5D3934BF5.pdf; Supplier: LCSC; Convert to PCB: yes; Saturation Current (Isat): -; Ratings: -
footprint IND-SMD_L4.5-W4.0
3D model IND-SMD_L4.5-W4.0-H3.2
pins: 1, 2

## CD54功率电感
designator L?, comment 22uH
功率电感; Code_IEC: 1005; Value: 47uH; Published: 8-Jun-2000; LatestRevisionDate: 29-May-2009; LatestRevisionNote: IPC-7351 Footprint Added.; PackageReference: 0402-A; Publisher: Altium Limited; PackageDescription: Chip Inductor; Code_JEITA: 0402
footprint CD54NP
pins: 1, 2

## CD4017BM(LX)
designator U?  (value not drawn)
Manufacturer: LX(灵星芯微); Add into BOM: yes; Logic Type: 十进制计数器; Direction: 向上计数器; Supply Voltage: 3V~15V; Number of Elements: 1; Trigger Type: 上升沿; Reset Style: 异步; Timing mode: 同步; Count Rate: 11MHz; Symbol: CD4017BM(LX); Device: CD4017BM(LX); LCSC Part Name: 计数器/分频器; Supplier Part: C22390236; Manufacturer Part: CD4017BM(LX); Supplier Footprint: SOP-16; JLCPCB Part Class: Extended Part; Datasheet: https://atta.szlcsc.com/upload/public/pdf/source/20240425/31B242B6AF6C26D668B5196FBFBA2015.pdf; Supplier: LCSC; Convert to PCB: yes; Operating Temperature: -40℃~+85℃
footprint SOP-16_L10.0-W3.9-P1.27-LS6.0-BL
3D model SOP-16_L9.9-W3.9-H1.5-LS6.0-P1.27
pins: 1 Q5, 2 Q1, 3 Q0, 4 Q2, 5 Q6, 6 Q7, 7 Q3, 8 VSS, 9 Q8, 10 Q4, 11 Q9, 12 Q5-9#, 13 CP1#, 14 CP0, 15 MR, 16 VDD

## CD4017BM(LX)_1
designator U?, comment CD4017BM(LX)  (value not drawn)
Manufacturer: LX(灵星芯微); Add into BOM: yes; Logic Type: 十进制计数器; Direction: 向上计数器; Supply Voltage: 3V~15V; Number of Elements: 1; Trigger Type: 上升沿; Reset Style: 异步; Timing mode: 同步; Count Rate: 11MHz; Symbol: CD4017BM(LX); Device: CD4017BM(LX); LCSC Part Name: 计数器/分频器; Supplier Part: C22390236; Manufacturer Part: CD4017BM(LX); Supplier Footprint: SOP-16; JLCPCB Part Class: Extended Part; Datasheet: https://atta.szlcsc.com/upload/public/pdf/source/20240425/31B242B6AF6C26D668B5196FBFBA2015.pdf; Supplier: LCSC; Convert to PCB: yes; Operating Temperature: -40℃~+85℃
footprint SOP-16_L10.0-W3.9-P1.27-LS6.0-BL
3D model SOP-16_L9.9-W3.9-H1.5-LS6.0-P1.27
pins: 1 Q5, 2 Q1, 3 Q0, 4 Q2, 5 Q6, 6 Q7, 7 Q3, 8 VSS, 9 Q8, 10 Q4, 11 Q9, 12 Q5-9#, 13 CP1#, 14 CP0, 15 MR, 16 VDD

## CD4017BM(LX)_2
designator U?, comment CD4017BM(LX)  (value not drawn)
Manufacturer: LX(灵星芯微); Add into BOM: yes; Logic Type: 十进制计数器; Direction: 向上计数器; Supply Voltage: 3V~15V; Number of Elements: 1; Trigger Type: 上升沿; Reset Style: 异步; Timing mode: 同步; Count Rate: 11MHz; Symbol: CD4017BM(LX); Device: CD4017BM(LX); LCSC Part Name: 计数器/分频器; Supplier Part: C22390236; Manufacturer Part: CD4017BM(LX); Supplier Footprint: SOP-16; JLCPCB Part Class: Extended Part; Datasheet: https://atta.szlcsc.com/upload/public/pdf/source/20240425/31B242B6AF6C26D668B5196FBFBA2015.pdf; Supplier: LCSC; Convert to PCB: yes; Operating Temperature: -40℃~+85℃
footprint SOP-16_L10.0-W3.9-P1.27-LS6.0-BL
3D model SOP-16_L9.9-W3.9-H1.5-LS6.0-P1.27
pins: 1 Q5, 2 Q1, 3 Q0, 4 Q2, 5 Q6, 6 Q7, 7 Q3, 8 VSS, 9 Q8, 10 Q4, 11 Q9, 12 Q5-9#, 13 CP1#, 14 CP0, 15 MR, 16 VDD

## CD4046BM/TR
designator U?  (value not drawn)
Manufacturer: HGSEMI(华冠); Add into BOM: yes; Symbol: CD4046BM/TR; Device: CD4046BM/TR; LCSC Part Name: CD4046BM/TR; Supplier Part: C7432285; Manufacturer Part: CD4046BM/TR; Supplier Footprint: SOP-16; JLCPCB Part Class: Extended Part; Datasheet: https://atta.szlcsc.com/upload/public/pdf/source/20240403/A740F569B8D8773AFE9FBF7376F8B764.pdf; Supplier: LCSC; Convert to PCB: yes
footprint SOP-16_L9.9-W3.9-P1.27-LS6.0-BL
3D model SOP-16_L9.9-W3.9-P1.27-LS6.0-BL
pins: 1 PCP, 2 PC1, 3 COMP IN, 4 FOUT, 5 EN#, 6 C1, 7 C2, 8 VSS, 9 VCO IN, 10 SF OUT, 11 R1, 12 R2, 13 PC2, 14 SIG IN, 15 ZENER, 16 VDD

## CD4082 (LX)
designator U?
双通道四输入与门
footprint SOP14_N (8.7*6.2*1.8mm（长宽高）)
part A pins: 1, 2, 3, 4, 5, 7 VSS, 14 VCC
part B pins: 9, 10, 11, 12, 13

## CH217K
designator U?
Current-Limited USB Power Distribution Switch
footprint SOT-23-6
pins: 1 VOUT (power), 2 GND (power), 3 FLAG# (oc), 4 EN# (in), 5 ISET (io), 6 VIN (power)

## CH339F
designator U?
4 ports High-Speed USB MTT Hub with SDIO & ethernet
footprint QFN32_4X4
pins: 0 GND (power), 1 MDITP (io), 2 MDITN (io), 3 VDD33 (power), 4 MDIRP (io), 5 MDIRN (io), 6 DMU (io), 7 DPU (io), 8 XO (out), 9 XI (in), 10 AVDDK (power), 11 DM1 (io), 12 DP1 (io), 13 DM2 (io), 14 DP2 (io), 15 VDD33 (power), 16 RESET# (in), 17 OVCUR# (in), 18 PWREN# (out), 19 SD_D3 (io), 20 SD_D2 (io), 21 SD_D1 (io), 22 SD_D0 (io), 23 SD_SCK/CFG1 (io), 24 VSDIO (power), 25 SD_CMD/CFG0 (io), 26 LED_ACT/SDA (io), 27 LED_LINK/SCL (out), 28 DVDDK (power), 29 DM4 (io), 30 DP4 (io), 31 DM3 (io), 32 DP3 (io)
2 alternate drawings of the same symbol

## CH343P
designator U?
USB to high speed enhanced TTL Serial / UART
footprint QFN16_3X3 (Footprint not found)
pins: 0 GND (power), 1 VIO (power), 2 GND (power), 3 VDD5 (power), 4 TXD (out), 5 RXD (in), 6 V3 (power), 7 UD+ (io), 8 UD- (io), 9 VBUS (in), 10 ACT# (out), 11 DCD (in), 12 DTR (out), 13 RTS (out), 14 DSR (in), 15 CTS (in), 16 RI (in)

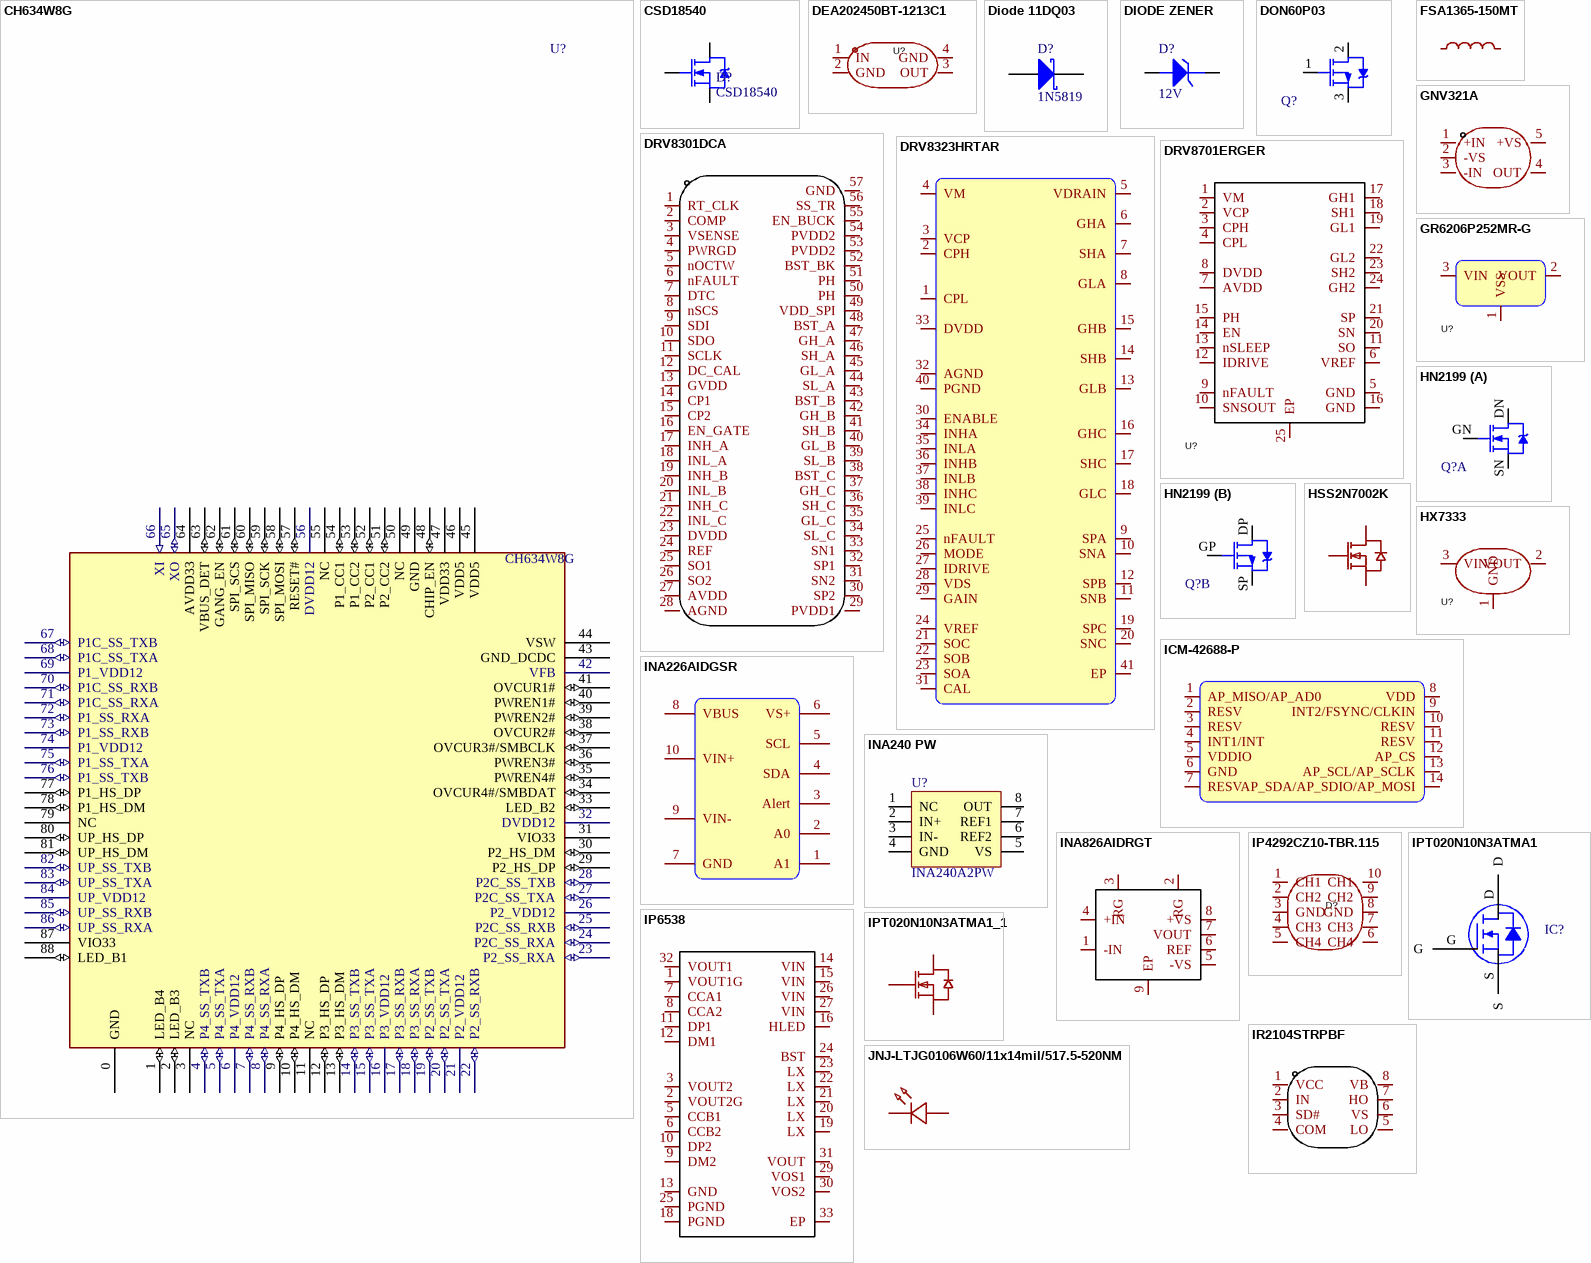
[diagram p2: symbols CH634W8G to JNJ-LTJG0106W60/11x14mil/517.5-520NM]

## CH634W8G
designator U?
4 ports USB 3.0 SS hub
footprint QFN88_10X10
pins: 0 GND (power), 1 LED_B4 (io), 2 LED_B3 (io), 3 NC, 4 P4_SS_TXB (io), 5 P4_SS_TXA (io), 6 P4_VDD12 (power), 7 P4_SS_RXB (io), 8 P4_SS_RXA (io), 9 P4_HS_DP (io), 10 P4_HS_DM (io), 11 NC, 12 P3_HS_DP (io), 13 P3_HS_DM (io), 14 P3_SS_TXB (io), 15 P3_SS_TXA (io), 16 P3_VDD12 (power), 17 P3_SS_RXB (io), 18 P3_SS_RXA (io), 19 P2_SS_TXB (io), 20 P2_SS_TXA (io), 21 P2_VDD12 (power), 22 P2_SS_RXB (io), 23 P2_SS_RXA (io), 24 P2C_SS_RXA (io), 25 P2C_SS_RXB (io), 26 P2_VDD12 (power), 27 P2C_SS_TXA (io), 28 P2C_SS_TXB (io), 29 P2_HS_DP (io), 30 P2_HS_DM (io), 31 VIO33 (power), 32 DVDD12 (power), 33 LED_B2 (io), 34 OVCUR4#/SMBDAT (io), 35 PWREN4# (io), 36 PWREN3# (io), 37 OVCUR3#/SMBCLK (io), 38 OVCUR2# (io), 39 PWREN2# (io), 40 PWREN1# (io), 41 OVCUR1# (io), 42 VFB (power), 43 GND_DCDC (power), 44 VSW (power), 45 VDD5 (power), 46 VDD5 (power), 47 VDD33 (power), 48 CHIP_EN (io), 49 GND (power), 50 NC, 51 P2_CC2 (io), 52 P2_CC1 (io), 53 P1_CC2 (io), 54 P1_CC1 (io), 55 NC, 56 DVDD12 (power), 57 RESET# (io), 58 SPI_MOSI (io), 59 SPI_SCK (io), 60 SPI_MISO (io), 61 SPI_SCS (io), 62 GANG_EN (io), 63 VBUS_DET (io), 64 AVDD33 (power), 65 XO (io), 66 XI (in), 67 P1C_SS_TXB (io), 68 P1C_SS_TXA (io), 69 P1_VDD12 (power), 70 P1C_SS_RXB (io), 71 P1C_SS_RXA (io), 72 P1_SS_RXA (io), 73 P1_SS_RXB (io), 74 P1_VDD12 (power), 75 P1_SS_TXA (io), 76 P1_SS_TXB (io), 77 P1_HS_DP (io), 78 P1_HS_DM (io), 79 NC, 80 UP_HS_DP (io), 81 UP_HS_DM (io), 82 UP_SS_TXB (io), 83 UP_SS_TXA (io), 84 UP_VDD12 (power), 85 UP_SS_RXB (io), 86 UP_SS_RXA (io), 87 VIO33 (power), 88 LED_B1 (io)

## CSD18540
designator D?
N沟道MOS管; Note: Pin 2 is electrically connected to pin 4.; Published: 8-Jun-2000; LatestRevisionDate: 17-Jul-2002; LatestRevisionNote: Re-released for DXP Platform.; DatasheetVersion: PD-9.814; PackageVersion: Feb-1997; PackageReference: TO-220AB; Publisher: Altium Limited; PackageDescription: TO, Thru-Hole, Vertical, Heatsink Mounted; 3 In-Line Leads; Pitch 2.54 mm; ComponentLink1Description: Manufacturer Link; ComponentLink1URL: http://www.irf.com/
footprint pg-tdson-8
pins: 1 G, 2 D, 3 S

## DEA202450BT-1213C1
designator U?  (value not drawn)
RF滤波器,中心频率2.45GHz,带宽100MHz; Manufacturer: TDK; Add into BOM: yes; Bandwidth: 100MHz; Filter Type: 带通; Insertion Loss: 1.5dB; Symbol: DEA202450BT-1213C1; Device: DEA202450BT-1213C1; LCSC Part Name: 多层带通滤波器; Supplier Part: C307898; Manufacturer Part: DEA202450BT-1213C1; Supplier Footprint: SMD-4P,1.2x2mm; JLCPCB Part Class: Extended Part; Datasheet: https://atta.szlcsc.com/upload/public/pdf/source/20181022/C307898_ED335916B8BBF018B2A2B9FCE924371D.pdf; Supplier: LCSC; Convert to PCB: yes; Ripple: -; Operating Temperature: -40℃~+85℃
footprint FILTER-SMD_0805-4P-L2.0-W1.3-L
3D model FILTER-SMD_0805-4P-L2.0-W1.3-H1.0-L
pins: 1 IN, 2 GND, 3 OUT, 4 GND

## Diode 11DQ03
designator D?, comment 1N5819
TVS; ComponentLink1Description: Manufacturer Link; ComponentLink1URL: http://www.irf.com/; ComponentLink2Description: Datasheet; ComponentLink2URL: http://www.irf.com/product-info/datasheets/data/11dq03.pdf
footprint SMA; pin to pad A>1 K>2
pins: 1 A, 2 K

## DIODE ZENER
designator D?, comment 12V
稳压二极管
footprint SOD-123; pin to pad A>1 K>2
pins: A, K

## DON60P03
designator Q?  (value not drawn)
PMOS 30V 60A
footprint PG-TDSON-8
pins: 1, 2, 3

## DRV8301DCA
designator U?  (value not drawn)
三相电机驱动器; Manufacturer: TI(德州仪器); Add into BOM: yes; Symbol: DRV8301DCA; Device: DRV8301DCA; Supplier: LCSC; Supplier Part: C92113; Manufacturer Part: DRV8301DCA; JLCPCB Part Class: Extended Part; LCSC Part Name: DRV8301DCA; Supplier Footprint: HTSSOP-56-EP-6mm; Datasheet: https://www.ti.com/cn/lit/gpn/drv8301; Convert to PCB: yes
footprint HTSSOP-56_L14.0-W6.0-P0.50-LS8.1-BL-EP
pins: 1 RT_CLK, 2 COMP, 3 VSENSE, 4 PWRGD, 5 nOCTW, 6 nFAULT, 7 DTC, 8 nSCS, 9 SDI, 10 SDO, 11 SCLK, 12 DC_CAL, 13 GVDD, 14 CP1, 15 CP2, 16 EN_GATE, 17 INH_A, 18 INL_A, 19 INH_B, 20 INL_B, 21 INH_C, 22 INL_C, 23 DVDD, 24 REF, 25 SO1, 26 SO2, 27 AVDD, 28 AGND, 29 PVDD1, 30 SP2, 31 SN2, 32 SP1, 33 SN1, 34 SL_C, 35 GL_C, 36 SH_C, 37 GH_C, 38 BST_C, 39 SL_B, 40 GL_B, 41 SH_B, 42 GH_B, 43 BST_B, 44 SL_A, 45 GL_A, 46 SH_A, 47 GH_A, 48 BST_A, 49 VDD_SPI, 50 PH, 51 PH, 52 BST_BK, 53 PVDD2, 54 PVDD2, 55 EN_BUCK, 56 SS_TR, 57 GND

## DRV8323HRTAR
designator U?  (value not drawn)
Manufacturer: TI(德州仪器); Add into BOM: yes; Symbol: DRV8323HRTAR; Device: DRV8323HRTAR; LCSC Part Name: 5mA 无刷直流BLDC电机驱动芯片 60V; Supplier Part: C701783; Manufacturer Part: DRV8323HRTAR; Supplier Footprint: QFN-40-EP(6x6); JLCPCB Part Class: Extended Part; Datasheet: https://www.ti.com/cn/lit/gpn/drv8323; Supplier: LCSC; Convert to PCB: yes
footprint QFN-40_L6.0-W6.0-P0.50-BL-EP4.5
3D model QFN-40_L6.0-W6.0-H0.8-P0.50
pins: 1 CPL, 2 CPH, 3 VCP, 4 VM, 5 VDRAIN, 6 GHA, 7 SHA, 8 GLA, 9 SPA, 10 SNA, 11 SNB, 12 SPB, 13 GLB, 14 SHB, 15 GHB, 16 GHC, 17 SHC, 18 GLC, 19 SPC, 20 SNC, 21 SOC, 22 SOB, 23 SOA, 24 VREF, 25 nFAULT, 26 MODE, 27 IDRIVE, 28 VDS, 29 GAIN, 30 ENABLE, 31 CAL, 32 AGND, 33 DVDD, 34 INHA, 35 INLA, 36 INHB, 37 INLB, 38 INHC, 39 INLC, 40 PGND, 41 EP

## DRV8701ERGER
designator U?  (value not drawn)
Manufacturer: TI(德州仪器); Add into BOM: yes; Symbol: DRV8701ERGER; Device: DRV8701ERGER; LCSC Part Name: 有刷直流电机驱动芯片 45V; Supplier Part: C90964; Manufacturer Part: DRV8701ERGER; Supplier Footprint: VQFN-24-EP(4x4); JLCPCB Part Class: Extended Part; Datasheet: https://www.ti.com/cn/lit/gpn/drv8701; Supplier: LCSC; Convert to PCB: yes
footprint VQFN-24_L4.0-W4.0-P0.50-TL-EP2.5
pins: 1 VM, 2 VCP, 3 CPH, 4 CPL, 5 GND, 6 VREF, 7 AVDD, 8 DVDD, 9 nFAULT, 10 SNSOUT, 11 SO, 12 IDRIVE, 13 nSLEEP, 14 EN, 15 PH, 16 GND, 17 GH1, 18 SH1, 19 GL1, 20 SN, 21 SP, 22 GL2, 23 SH2, 24 GH2, 25 EP

## FSA1365-150MT
designator L?, comment 15uH  (value not drawn)
Manufacturer: Magnetsyc(元磁); Symbol: FSA1365-150MT; Add into BOM: yes; Tolerance: ±20%; Current Rating: 9.5A; Current - Saturation(Isat): 11A; DC Resistance(DCR): 26mΩ; Type: 一体成型电感; Device: FSA1365-150MT; LCSC Part Name: FSA1365-150MT; Supplier Part: C41384379; Manufacturer Part: FSA1365-150MT; Supplier Footprint: SMD,13.5x12.6mm; Datasheet: https://atta.szlcsc.com/upload/public/pdf/source/20240711/9B03E5065F7E305B3C101DF3C90F5A28.pdf; Supplier: LCSC; Convert to PCB: yes; Value: 15uH
footprint IND-SMD_L13.8-W12.7
3D model IND-SMD_L13.8-W12.7
pins: 1, 2

## GNV321A
designator U?  (value not drawn)
Manufacturer: GN(旌芯半导体); Add into BOM: yes; Number of Channels: 单路; Maximum Power Supply Range (Vdd-Vss): 5.5V; Rail to Rail: 轨到轨输入,轨到轨输出; Gain Bandwidth Product: 1.1MHz; Vos - Input Offset Voltage: 1.5mV; Input Offset Voltage Drift(Vos TC): 2.7uV/℃; Slew Rate: 500V/ms; Noise density(eN): 20nV/√Hz@10kHz; Common Mode Rejection Ratio(CMRR): 70dB; Symbol: GNV321A; Device: GNV321A; LCSC Part Name: 单路低功耗运算放大器; Supplier Part: C22461433; Manufacturer Part: GNV321A; Supplier Footprint: SOT-23-5; JLCPCB Part Class: Extended Part; Datasheet: https://atta.szlcsc.com/upload/public/pdf/source/20240605/13659089AF980DB40762016B243D645A.pdf; Supplier: LCSC; Convert to PCB: yes; Operating Temperature: -40℃~+85℃
footprint SOT-23-5_L3.0-W1.7-P0.95-LS2.8-BR
pins: 1 +IN, 2 -VS, 3 -IN, 4 OUT, 5 +VS

## GR6206P252MR-G
designator U?  (value not drawn)
1.8V LDO,100mA; Manufacturer: GR(国睿); Add into BOM: yes; Output Type: 固定; Maximum Input Voltage: 6.5V; Output Voltage: 2.5V; Output Current: 300mA; standby current: 6.5uA; Number of Outputs: 1; Symbol: GR6206P252MR-G; Device: GR6206P252MR-G; LCSC Part Name: GR6206P252MR-G; Supplier Part: C19631733; Manufacturer Part: GR6206P252MR-G; Supplier Footprint: SOT-23-3; JLCPCB Part Class: Extended Part; Datasheet: https://atta.szlcsc.com/upload/public/pdf/source/20231222/0B414D75AEC2848EE9DFF2A875D3E7D2.pdf; Supplier: LCSC; Convert to PCB: yes; Feature: 短路保护；过流保护(OCP)；带使能
footprint SOT-23-3_L2.9-W1.6-P1.90-LS2.8-BR
3D model SOT-23-3L_L2.9-W1.6-H1.1-LS2.8-P0.95
pins: 1 VSS, 2 VOUT, 3 VIN

## HN2199
designator Q?  (value not drawn)
一个NMOS+一个PMOS
footprint DFN-8_L5.8-W4.9-P1.27-LS6.0-BL
part A pins: DN D, GN, SN S
part B pins: DP D, GP G, SP

## HSS2N7002K
designator Q?  (value not drawn)
Manufacturer: HUASHUO(华朔); Add into BOM: yes; Type: 1个N沟道; Drain to Source Voltage: 60V; Current - Continuous Drain(Id): 300mA; RDS(on): 2Ω@4.5V,100mA; Pd - Power Dissipation: 350mW; Gate Threshold Voltage (Vgs(th)@Id): 1.2V; Gate Charge(Qg): 1nC@4.5V; Input Capacitance(Ciss@Vds): 38pF@25V; Reverse Transfer Capacitance (Crss@Vds): 2pF@25V; Symbol: HSS2N7002K; Device: HSS2N7002K; LCSC Part Name: 1个N沟道 耐压:60V 电流:300mA; Supplier Part: C518788; Manufacturer Part: HSS2N7002K; Supplier Footprint: SOT-23-3; JLCPCB Part Class: Extended Part; Datasheet: https://atta.szlcsc.com/upload/public/pdf/source/20200421/C518788_C4C427C6EC2B9797F477B23308332542.pdf; Supplier: LCSC; Convert to PCB: yes; Operating Temperature: -40℃~+150℃
footprint SOT-23-3_L2.9-W1.3-P1.90-LS2.4-BR
3D model SOT-23-3P_L2.9-W1.3-H1.0-LS2.4-P0.95
pins: 1 G, 2 S, 3 D

## HX7333
designator U?  (value not drawn)
3.3V LDO; Manufacturer: HX(恒佳兴); Symbol: HX7333_C296168; Add into BOM: yes; Device: HX7333; LCSC Part Name: 三端稳压IC  HX7333; Supplier Part: C296168; Manufacturer Part: HX7333; Supplier Footprint: SOT-23-3; JLCPCB Part Class: Extended Part; Datasheet: https://atta.szlcsc.com/upload/public/pdf/source/20181113/C296175_579A2FCEE9AC415DE285B8AF619B4CF6.pdf; Supplier: LCSC; Convert to PCB: yes; Output Type: -
footprint SOT-23-3_L2.9-W1.3-P1.90-LS2.4-BR
pins: 1 GND, 2 VOUT, 3 VIN

## ICM-42688-P
designator U?  (value not drawn)
Manufacturer: TDK InvenSense(应美盛); Add into BOM: yes; Sensor Type: 加速度计陀螺仪; Symbol: ICM-42688-P; Device: ICM-42688-P; LCSC Part Name: ICM-42688-P; Supplier Part: C1850418; Manufacturer Part: ICM-42688-P; Supplier Footprint: LGA-14(2.5x3); JLCPCB Part Class: Extended Part; Datasheet: https://atta.szlcsc.com/upload/public/pdf/source/20210703/CF24204867ACE5B754A2B035F23E5931.pdf; Supplier: LCSC; Convert to PCB: yes
footprint LGA-14_L3.0-W2.5-P0.50-TL
3D model LGA-14_L2.5-W3.0-H0.9-P0.50
pins: 1 AP_MISO/AP_AD0, 2 RESV, 3 RESV, 4 INT1/INT, 5 VDDIO, 6 GND, 7 RESV, 8 VDD, 9 INT2/FSYNC/CLKIN, 10 RESV, 11 RESV, 12 AP_CS, 13 AP_SCL/AP_SCLK, 14 AP_SDA/AP_SDIO/AP_MOSI

## INA226AIDGSR
designator U?  (value not drawn)
双向电流传感器; Manufacturer: TI(德州仪器); Add into BOM: yes; Supply Voltage: 0V~36V; Symbol: INA226AIDGSR; Device: INA226AIDGSR; Supplier: LCSC; Manufacturer Part: INA226AIDGSR; Supplier Part: C49851; JLCPCB Part Class: Extended Part; LCSC Part Name: INA226AIDGSR; Supplier Footprint: MSOP-10; Datasheet: https://www.ti.com/cn/lit/gpn/ina226; Convert to PCB: yes; Operating Temperature: -40℃~+125℃
footprint MSOP-10_L3.0-W3.0-P0.50-LS5.0-BL
pins: 1 A1, 2 A0, 3 Alert, 4 SDA, 5 SCL, 6 VS+, 7 GND, 8 VBUS, 9 VIN-, 10 VIN+

## INA240 PW
designator U?, comment INA240A2PW
双向电流传感器
footprint SSOP8 (SSOP, Plastic; 8 Leads; Body Width 5.3 mm; Pitch 0.65 mm)
pins: 1 NC, 2 IN+, 3 IN-, 4 GND, 5 VS, 6 REF2, 7 REF1, 8 OUT

## INA826AIDRGT
designator U?  (value not drawn)
Manufacturer: TI(德州仪器); Add into BOM: yes; Number of Circuits: 单路; Current - Input Bias(Ib): 35nA; Voltage - Input Offset(Vos): 40uV; Slew Rate(SR): 1V/us; -3db Bandwidth: 1MHz; Symbol: INA826AIDRGT; Device: INA826AIDRGT; LCSC Part Name: INA826AIDRGT; Supplier Part: C206201; Manufacturer Part: INA826AIDRGT; Supplier Footprint: SON-8-EP(3x3); JLCPCB Part Class: Extended Part; Datasheet: https://www.ti.com/cn/lit/gpn/ina826; Supplier: LCSC; Convert to PCB: yes; Gain Bandwidth Product(GBP): -; Rail to Rail: -; Output Type: -; Operating Temperature: -40℃~+125℃
footprint SON-8_L3.0-W3.0-P0.50-TL-EP_OPA1612AIDRGR
pins: 1 -IN, 2 RG, 3 RG, 4 +IN, 5 -VS, 6 REF, 7 VOUT, 8 +VS, 9 EP